# Altium schematic symbol library Pi.SchLib: 64 symbols
Pins are listed as number, name and electrical type; pins without a type are passive.

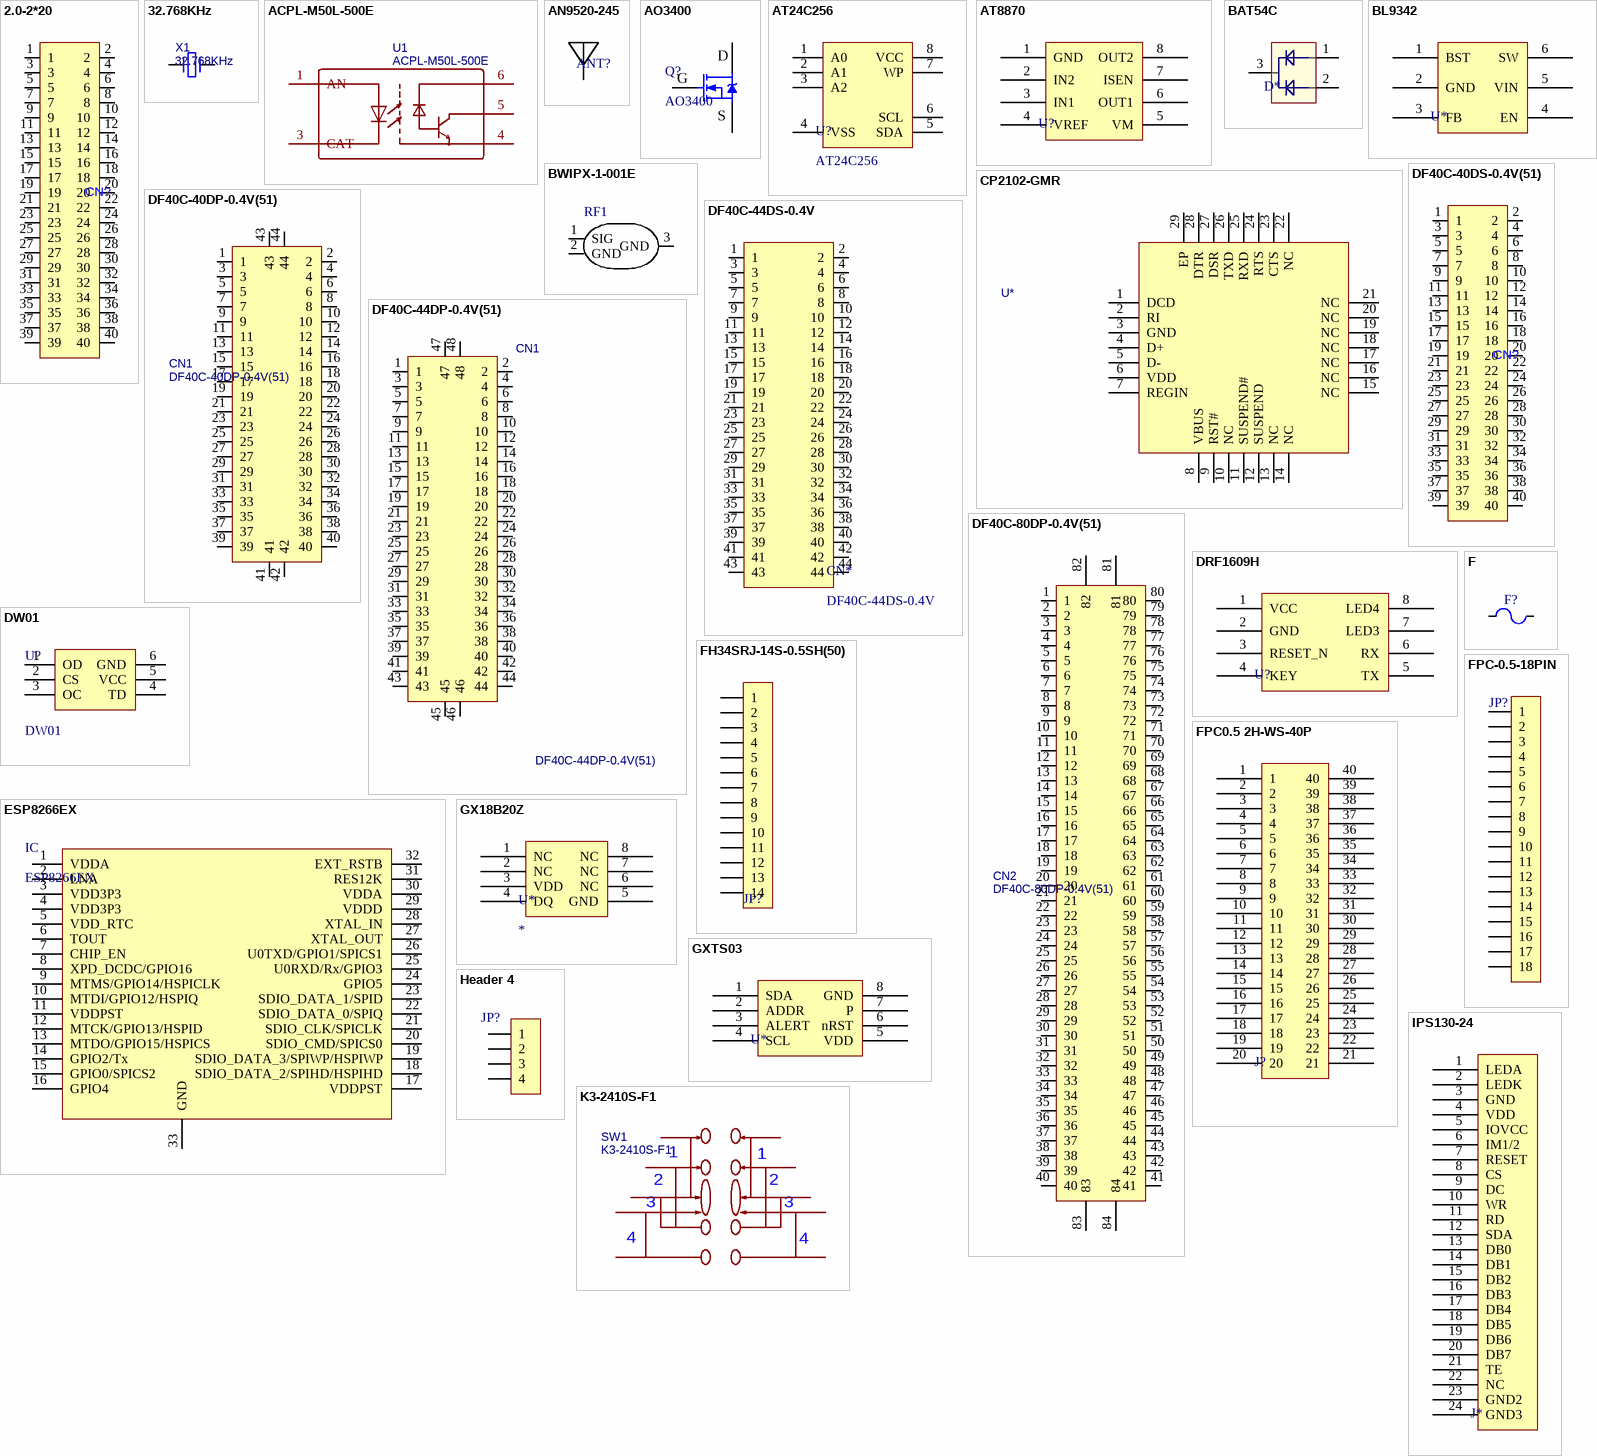
[diagram p0: symbols 2.0-2*20 to K3-2410S-F1]

## 2.0-2*20
designator CN?
footprint DF40C-40DS-0.4V
footprint 2.0-2*20
pins: 1, 2, 3, 4, 5, 6, 7, 8, 9, 10, 11, 12, 13, 14, 15, 16, 17, 18, 19, 20, 21, 22, 23, 24, 25, 26, 27, 28, 29, 30, 31, 32, 33, 34, 35, 36, 37, 38, 39, 40

## 32.768KHz
designator X1
立创商城:C48615; BOM_Manufacturer Part: Q13FC1350000200; BOM_Manufacturer: EPSON; nameAlias: Frequency; BOM_Supplier: LCSC; BOM_Supplier Part: C48615; BOM_JLCPCB Part Class: Extended Part; spicePre: X; spiceSymbolName: Q13FC1350000200
footprint SMD3215-2P
pins: 1, 2

## ACPL-M50L-500E
designator U1
BOM_Manufacturer: AVAGO; BOM_Supplier: LCSC; BOM_Manufacturer Part: ACPL-M50L-500E; BOM_Supplier Part: C54677; BOM_JLCPCB Part Class: Extended Part; spicePre: U; spiceSymbolName: ACPL-M50L-500E
footprint SO-5
pins: 1 AN, 3 CAT, 4 EM, 5 COL, 6 VCC

## AN9520-245
designator ANT?
陶瓷天线; BOM名称: PCB板载天线; 联系卖家，免费技术支持: 唯一出售店铺网址https://shop463601444.taobao.com
footprint AN9520-245
footprint 2.4GANTF1
footprint 2.4GANTF2
footprint 2.4GANTF3
footprint 2.4GANTF4
footprint 2.4GANTS0
footprint 2.4GANTS8
footprint 2.4GANTS9
footprint WIFI-ANT
pins: 1

## AO3400
designator Q?
N沟道 30V/4.2A; BOM名称: 场效应管; 封装库来自淘宝卖家 ID：黄晶宝石: 其他店铺购入均为盗版，不享受售后技术支持服务，请立即申请退款; 联系卖家，免费查找封装: 唯一出售店铺网址https://shop463601444.taobao.com; 参数: N沟道 30V/4.2A
footprint SOT23-3L
footprint SOT23-3L (3x1.3x1mm(长宽高))
footprint SOT23-3M (3x1.3x1mm(长宽高))
pins: 1 G, 2 S, 3 D

## AT24C256
designator U?
EEROM存储器; 联系卖家，免费查找封装: 唯一出售店铺网址https://shop463601444.taobao.com
footprint SOIC-8
pins: 1 A0, 2 A1, 3 A2, 4 VSS, 5 SDA, 6 SCL, 7 WP, 8 VCC

## AT8870
designator U?
footprint ESOP8_L (5*6*1.8mm（长宽高）)
pins: 1 GND, 2 IN2, 3 IN1, 4 VREF, 5 VM, 6 OUT1, 7 ISEN, 8 OUT2

## BAT54C
designator D*  (value not drawn)
两路肖特基二极管
footprint SOT23-3L
pins: 1, 2, 3

## BL9342
designator U*  (value not drawn)
footprint SOT23-6L
pins: 1 BST, 2 GND, 3 FB, 4 EN, 5 VIN, 6 SW

## BWIPX-1-001E
designator RF1
Manufacturer: BAT WIRELESS(蝙蝠无线); Symbol: BWIPX-1-001E; Add into BOM: yes; Device: BWIPX-1-001E; LCSC Part Name: RF天线座; Supplier Part: C496552; Manufacturer Part: BWIPX-1-001E; Supplier Footprint: -; JLCPCB Part Class: Extended Part; Datasheet: https://atta.szlcsc.com/upload/public/pdf/source/20201223/C496552_05E5A9956EAE1A8819C5051D085B1DED.pdf; Supplier: LCSC; Convert to PCB: yes
footprint IPEX-SMD_BWIPX-1-001E
3D model IPEX-SMD_BWIPX-1-001E
pins: 1 SIG, 2 GND, 3 GND

## CP2102-GMR
designator U*  (value not drawn)
BOM_Manufacturer: SILICON LABS; BOM_Supplier: LCSC; BOM_Manufacturer Part: CP2102-GMR; BOM_Supplier Part: C6568; BOM_JLCPCB Part Class: Basic Part; spicePre: U; spiceSymbolName: CP2102-GMR
footprint QFN28 5x5
pins: 1 DCD, 2 RI, 3 GND, 4 D+, 5 D-, 6 VDD, 7 REGIN, 8 VBUS, 9 RST#, 10 NC, 11 SUSPEND#, 12 SUSPEND, 13 NC, 14 NC, 15 NC, 16 NC, 17 NC, 18 NC, 19 NC, 20 NC, 21 NC, 22 NC, 23 CTS, 24 RTS, 25 RXD, 26 TXD, 27 DSR, 28 DTR, 29 EP

## DF40C-40DP-0.4V(51)
designator CN1
公座 / C424643; BOM_Manufacturer: HRS(广濑); Contributor: LCSC; BOM_Supplier: LCSC; BOM_Supplier Part: C424643; BOM_Manufacturer Part: DF40C-40DP-0.4V(51); BOM_JLCPCB Part Class: Extended Part; spicePre: C; spiceSymbolName: DF40C-40DP-0.4V(51)
footprint DF40C-40DP-0.4V
pins: 1, 2, 3, 4, 5, 6, 7, 8, 9, 10, 11, 12, 13, 14, 15, 16, 17, 18, 19, 20, 21, 22, 23, 24, 25, 26, 27, 28, 29, 30, 31, 32, 33, 34, 35, 36, 37, 38, 39, 40, 41, 42, 43, 44

## DF40C-40DS-0.4V(51)
designator CN?
BTB 母座 / C424644
footprint DF40C-40DS-0.4V
pins: 1, 2, 3, 4, 5, 6, 7, 8, 9, 10, 11, 12, 13, 14, 15, 16, 17, 18, 19, 20, 21, 22, 23, 24, 25, 26, 27, 28, 29, 30, 31, 32, 33, 34, 35, 36, 37, 38, 39, 40

## DF40C-44DP-0.4V(51)
designator CN1
公座 /; BOM_Manufacturer: HRS(广濑); BOM_Manufacturer Part: DF40C-40DP-0.4V(51); Contributor: LCSC; BOM_Supplier: LCSC; BOM_Supplier Part: C424643; BOM_JLCPCB Part Class: Extended Part; spicePre: C; spiceSymbolName: DF40C-40DP-0.4V(51)
footprint DF40C-44DP-0.4V
pins: 1, 2, 3, 4, 5, 6, 7, 8, 9, 10, 11, 12, 13, 14, 15, 16, 17, 18, 19, 20, 21, 22, 23, 24, 25, 26, 27, 28, 29, 30, 31, 32, 33, 34, 35, 36, 37, 38, 39, 40, 41, 42, 43, 44, 45, 46, 47, 48

## DF40C-44DS-0.4V
designator CN*
母座
footprint DF40C-44DS-0.4V
pins: 1, 2, 3, 4, 5, 6, 7, 8, 9, 10, 11, 12, 13, 14, 15, 16, 17, 18, 19, 20, 21, 22, 23, 24, 25, 26, 27, 28, 29, 30, 31, 32, 33, 34, 35, 36, 37, 38, 39, 40, 41, 42, 43, 44

## DF40C-80DP-0.4V(51)
designator CN2
BOM_Manufacturer: HRS(Hirose); Contributor: LCSC; BOM_Supplier: LCSC; BOM_Supplier Part: C294544; BOM_Manufacturer Part: DF40C-80DP-0.4V(51); BOM_JLCPCB Part Class: Extended Part; spicePre: C; spiceSymbolName: DF40C-80DP-0.4V(51)
footprint DF40C-80DP-0.4V
pins: 1, 2, 3, 4, 5, 6, 7, 8, 9, 10, 11, 12, 13, 14, 15, 16, 17, 18, 19, 20, 21, 22, 23, 24, 25, 26, 27, 28, 29, 30, 31, 32, 33, 34, 35, 36, 37, 38, 39, 40, 41, 42, 43, 44, 45, 46, 47, 48, 49, 50, 51, 52, 53, 54, 55, 56, 57, 58, 59, 60, 61, 62, 63, 64, 65, 66, 67, 68, 69, 70, 71, 72, 73, 74, 75, 76, 77, 78, 79, 80, 81, 82, 83, 84

## DRF1609H
designator U?
Zigbee模块
footprint DRF1609H-SMT
pins: 1 VCC, 2 GND, 3 RESET_N, 4 KEY, 5 TX, 6 RX, 7 LED3, 8 LED4

## DW01
designator U?
锂电池过流保护IC; BOM名称: 过流保护IC; 封装库来自淘宝卖家 ID：黄晶宝石: 其他店铺购入均为盗版，请立即申请退款，本店现金奖励5~20元; 联系卖家 免费查找封装: 唯一出售店铺网址https://shop463601444.taobao.com
footprint SOT23-6L
pins: 1 OD, 2 CS, 3 OC, 4 TD, 5 VCC, 6 GND

## ESP8266EX
designator IC
WIFI-芯片 / C77967
footprint QFN32 5x5_L
pins: 1 VDDA, 2 LNA, 3 VDD3P3, 4 VDD3P3, 5 VDD_RTC, 6 TOUT, 7 CHIP_EN, 8 XPD_DCDC/GPIO16, 9 MTMS/GPIO14/HSPICLK, 10 MTDI/GPIO12/HSPIQ, 11 VDDPST, 12 MTCK/GPIO13/HSPID, 13 MTDO/GPIO15/HSPICS, 14 GPIO2/Tx, 15 GPIO0/SPICS2, 16 GPIO4, 17 VDDPST, 18 SDIO_DATA_2/SPIHD/HSPIHD, 19 SDIO_DATA_3/SPIWP/HSPIWP, 20 SDIO_CMD/SPICS0, 21 SDIO_CLK/SPICLK, 22 SDIO_DATA_0/SPIQ, 23 SDIO_DATA_1/SPID, 24 GPIO5, 25 U0RXD/Rx/GPIO3, 26 U0TXD/GPIO1/SPICS1, 27 XTAL_OUT, 28 XTAL_IN, 29 VDDD, 30 VDDA, 31 RES12K, 32 EXT_RSTB, 33 GND

## F
designator F?
保险丝
footprint R1206 (1/4W贴片电阻)
footprint R0603 (贴片电阻)
pins: 1, 2

## FH34SRJ-14S-0.5SH(50)
designator JP?
C324724
footprint FH34SRJ-14S-0.5SH(50)
pins: 1, 2, 3, 4, 5, 6, 7, 8, 9, 10, 11, 12, 13, 14

## FPC0.5 2H-WS-40P
designator J?
FPC0.5 2H-WS-40P
footprint FPC0.5 2H-WS-40P
pins: 1, 2, 3, 4, 5, 6, 7, 8, 9, 10, 11, 12, 13, 14, 15, 16, 17, 18, 19, 20, 21, 22, 23, 24, 25, 26, 27, 28, 29, 30, 31, 32, 33, 34, 35, 36, 37, 38, 39, 40

## FPC-0.5-18PIN
designator JP?, comment HDR-1X18  (value not drawn)
FPC-0.5-18PIN
footprint FPC0.5 2H-WS-18P
pins: 1, 2, 3, 4, 5, 6, 7, 8, 9, 10, 11, 12, 13, 14, 15, 16, 17, 18

## GX18B20Z
designator U*
footprint SOP-8
pins: 1 NC, 2 NC, 3 VDD, 4 DQ, 5 GND, 6 NC, 7 NC, 8 NC

## GXTS03
designator U*
温度传感器 / C571219
footprint DFN-8
pins: 1 SDA, 2 ADDR, 3 ALERT, 4 SCL, 5 VDD, 6 nRST, 7 P, 8 GND

## Header 4
designator JP?, comment HDR-1X4  (value not drawn)
4P接插件
footprint HDR2.54
pins: 1, 2, 3, 4

## IPS130-24
designator J*
footprint FPC0.5 2H-WS-24P
pins: 1 LEDA, 2 LEDK, 3 GND, 4 VDD, 5 IOVCC, 6 IM1/2, 7 RESET, 8 CS, 9 DC, 10 WR, 11 RD, 12 SDA, 13 DB0, 14 DB1, 15 DB2, 16 DB3, 17 DB4, 18 DB5, 19 DB6, 20 DB7, 21 TE, 22 NC, 23 GND2, 24 GND3

## K3-2410S-F1
designator SW1
10脚四档滑动开关; BOM_Manufacturer: 韩国韩荣; Contributor: LCSC; BOM_Supplier: LCSC; BOM_Supplier Part: C502354; BOM_Manufacturer Part: K3-2410S-F1; BOM_JLCPCB Part Class: Extended Part; spicePre: S; spiceSymbolName: K3-2410S-F1
footprint SW-SMD_K3-2410S-F1
pins: 1, 2, 3, 4, 5, 6, 7, 8, 9, 10

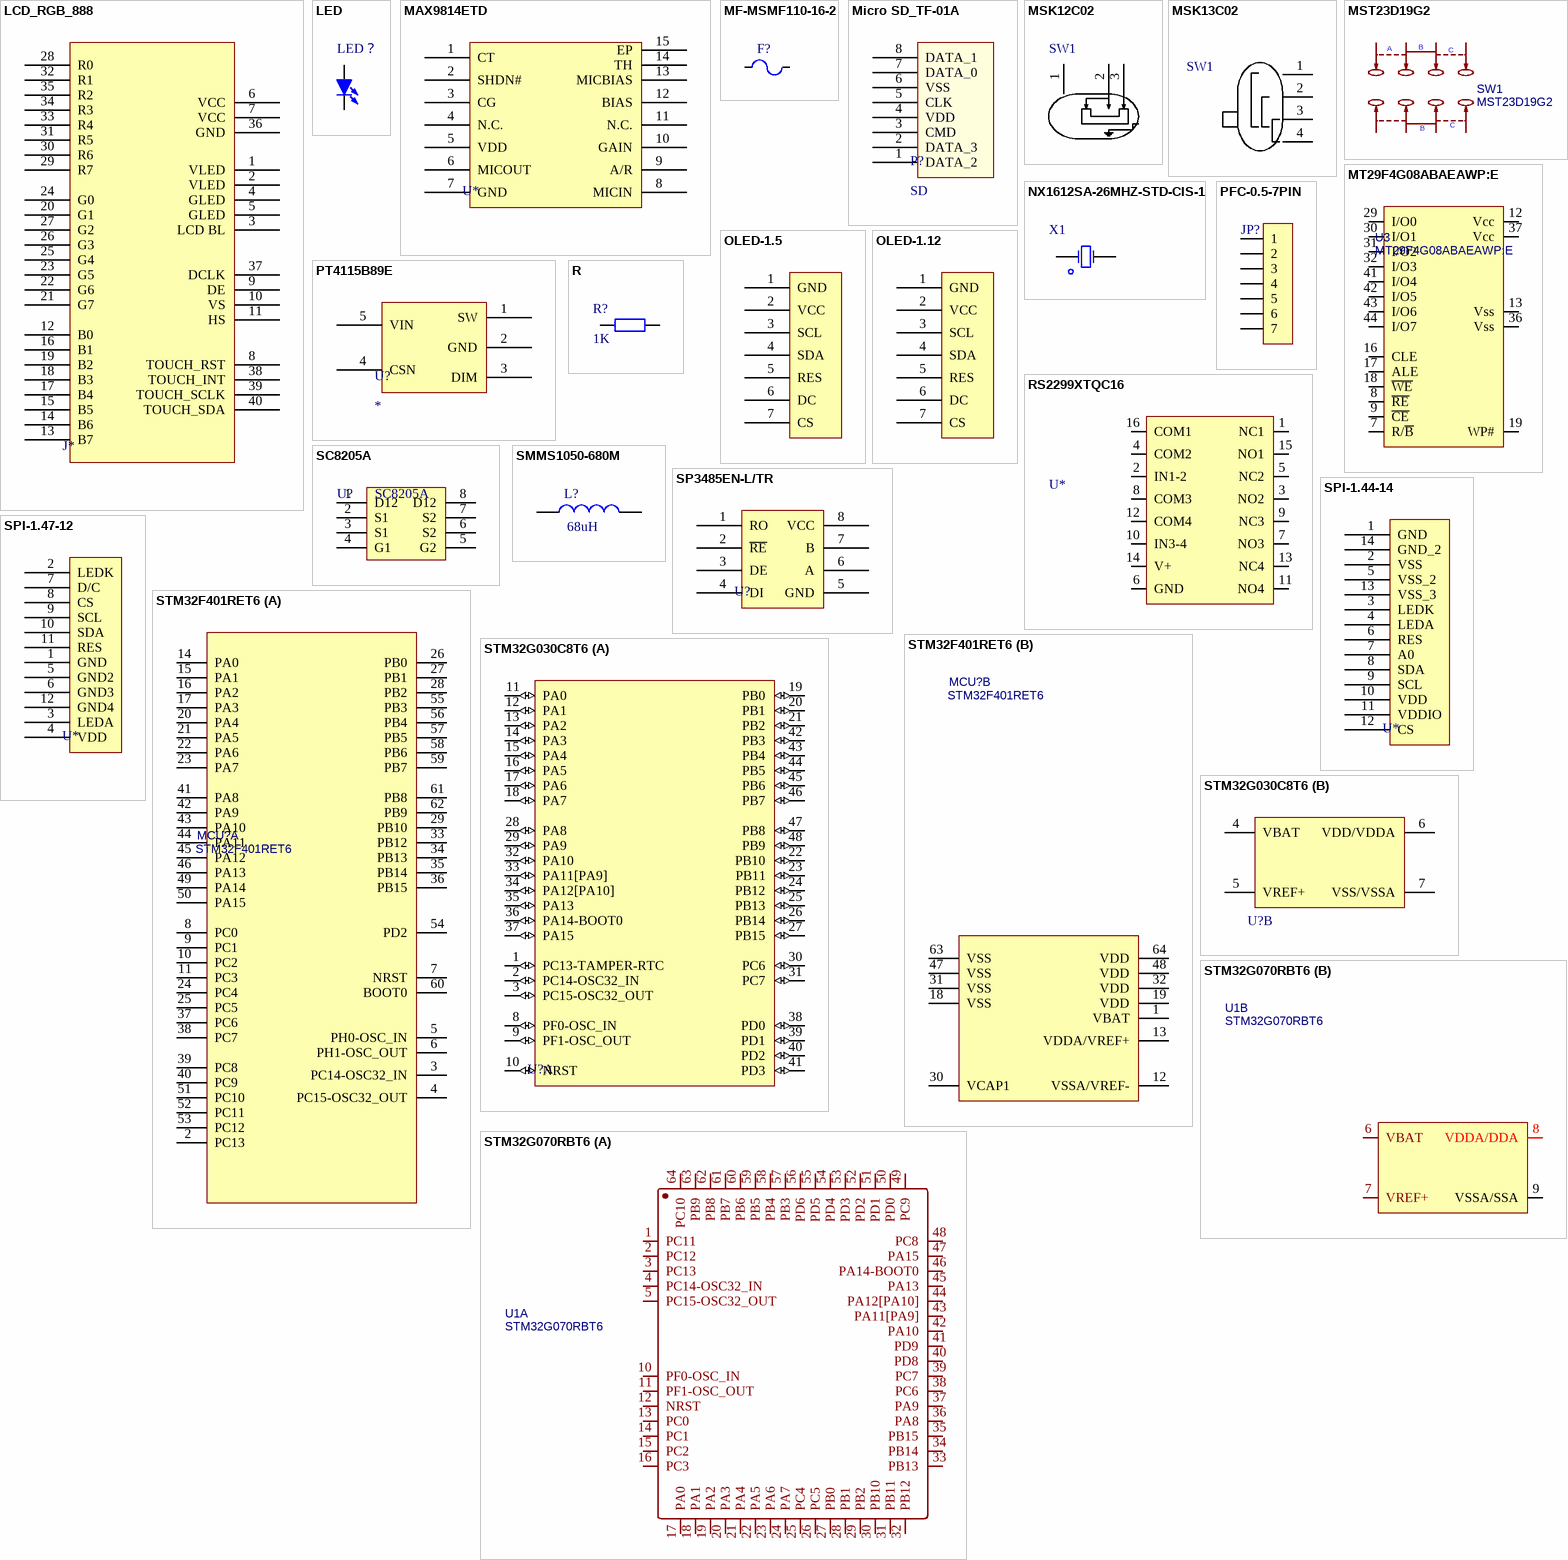
[diagram p1: symbols LCD_RGB_888 to STM32G070RBT6]

## LCD_RGB_888
designator J*
AT070TN83 或者反客
footprint FPC0.5 2H-WS-40P
pins: 1 VLED, 2 VLED, 3 LCD BL, 4 GLED, 5 GLED, 6 VCC, 7 VCC, 8 TOUCH_RST, 9 DE, 10 VS, 11 HS, 12 B0, 13 B7, 14 B6, 15 B5, 16 B1, 17 B4, 18 B3, 19 B2, 20 G1, 21 G7, 22 G6, 23 G5, 24 G0, 25 G4, 26 G3, 27 G2, 28 R0, 29 R7, 30 R6, 31 R5, 32 R1, 33 R4, 34 R3, 35 R2, 36 GND, 37 DCLK, 38 TOUCH_INT, 39 TOUCH_SCLK, 40 TOUCH_SDA

## LED
designator LED？
贴片LED; BOM名称: 贴片LED
footprint LED0603 (0603LED)
pins: 1 A, 2 K

## MAX9814ETD
designator U*
footprint TDFN-14
pins: 1 CT, 2 SHDN#, 3 CG, 4 N.C., 5 VDD, 6 MICOUT, 7 GND, 8 MICIN, 9 A/R, 10 GAIN, 11 N.C., 12 BIAS, 13 MICBIAS, 14 TH, 15 EP

## MF-MSMF110-16-2
designator F?
保险; Manufacturer: SXN(顺翔诺); Symbol: SMMS1050-680M; Add into BOM: yes; Value: 68uH; Tolerance: ±20%; Rated Current: 2A; DC Resistance (DCR): 210mΩ; Device: SMMS1050-680M; LCSC Part Name: 68uH ±20% 2A 210mΩ; Supplier Part: C149549; Manufacturer Part: SMMS1050-680M; Supplier Footprint: SMD; JLCPCB Part Class: 扩展库; Datasheet: https://atta.szlcsc.com/upload/public/pdf/source/20210810/BBF24330FB2F5029F637830BA9C42C0D.pdf; Supplier: LCSC; Convert to PCB: yes
3D model IND-SMD_L11.5-W10.0-H4.0
footprint Model Name (Footprint not found)
footprint F1812
pins: 1, 2

## Micro SD_TF-01A
designator P?, comment SD
TF-01A / C91145; 联系卖家，免费查找封装: 唯一出售店铺网址https://shop463601444.taobao.com
footprint MICRO SD
footprint TF-01A
pins: 1 DATA_2, 2 DATA_3, 3 CMD, 4 VDD, 5 CLK, 6 VSS, 7 DATA_0, 8 DATA_1

## MSK12C02
designator SW1
Manufacturer: SHOU HAN(首韩); Symbol: MSK12C02; Add into BOM: yes; Device: MSK12C02; LCSC Part Name: 两档侧拨贴片 7脚 拨动 白柄 柄长1.5mm,带定位柱; Supplier Part: C431540; Manufacturer Part: MSK12C02; Supplier Footprint: SMD; Datasheet: https://atta.szlcsc.com/upload/public/pdf/source/20190925/C431540_89155AEF0758B9AD1B2D805F83FB12E3.pdf; Supplier: LCSC; Convert to PCB: yes; JLCPCB Part Class: Extended Part
footprint SW-TH_MSK12C02
3D model SW-SMD_3P-L6.6-W2.7-LS7.8-P1.50
pins: 1, 2, 3

## MSK13C02
designator SW1
Manufacturer: SHOU HAN(首韩); Symbol: MSK13C02; Add into BOM: yes; Current Rating (AC): 300mA; Voltage Rating (AC): 4V; Circuit: 单刀双掷; Mechanical Life: 10000; Actuator Color: 黑色; Actuator Style: 矩形柱状; Pin Style: PC引脚; Device: MSK13C02; LCSC Part Name: 三档侧拨贴片 8脚拨动 黑柄,柄长1.5mm,耐温,高品质; Supplier Part: C2681567; Manufacturer Part: MSK13C02; Supplier Footprint: SMD; JLCPCB Part Class: Extended Part; Datasheet: https://atta.szlcsc.com/upload/public/pdf/source/20210224/C2681569_FC58956A868B5CB7B9861AAED20A2183.pdf; Supplier: LCSC; Convert to PCB: yes; Current Rating (DC): -; Voltage Rating (DC): -; Mounting Style: -; Operating Temperature: -10~+50
footprint SW-SMD_MSK13C02-SZ
3D model SW-SMD_MSK13C02-SZ
pins: 1, 2, 3, 4

## MST23D19G2
designator SW1
C431545; BOM_Manufacturer: SHOU HAN; Contributor: LCSC; BOM_Supplier: LCSC; BOM_Supplier Part: C431545; BOM_Manufacturer Part: MST23D19G2; BOM_JLCPCB Part Class: Extended Part; spicePre: S; spiceSymbolName: MST23D19G2
footprint SW-SMD_MST23D19G2
pins: 1, 2, 3, 4, 5, 6, 7, 8
text: B; A; C

## MT29F4G08ABAEAWP:E
designator U3
C496612; BOM_Manufacturer: micron(镁光); Contributor: LCSC; BOM_Supplier: LCSC; BOM_Supplier Part: C496612; BOM_Manufacturer Part: MT29F4G08ABAEAWP:E; BOM_JLCPCB Part Class: Extended Part; spicePre: U; spiceSymbolName: MT29F4G08ABAEAWP:E
footprint TSOP-48
pins: 1 NC hidden, 2 NC hidden, 3 NC hidden, 4 NC hidden, 5 NC hidden, 6 NC hidden, 7 R/~{B}, 8 ~{RE}, 9 ~{CE}, 10 NC hidden, 11 NC hidden, 12 Vcc, 13 Vss, 14 NC hidden, 15 NC hidden, 16 CLE, 17 ALE, 18 ~{WE}, 19 WP#, 20 DNU hidden, 21 DNU hidden, 22 DNU hidden, 23 NC hidden, 24 NC hidden, 25 NC hidden, 26 NC hidden, 27 NC hidden, 28 NC hidden, 29 I/O0, 30 I/O1, 31 I/O2, 32 I/O3, 33 NC hidden, 34 NC hidden, 35 NC hidden, 36 Vss, 37 Vcc, 38 PRE/VSS hidden, 39 NC hidden, 40 NC hidden, 41 I/O4, 42 I/O5, 43 I/O6, 44 I/O7, 45 NC hidden, 46 NC hidden, 47 NC hidden, 48 NC hidden

## NX1612SA-26MHZ-STD-CIS-1
designator X1
Manufacturer: NDK; Symbol: NX1612SA-26MHZ-STD-CIS-1; Add into BOM: yes; Device: NX1612SA-26MHZ-STD-CIS-1; LCSC Part Name: 26MHz 8pF ±10ppm; Supplier Part: C280835; Manufacturer Part: NX1612SA-26MHZ-STD-CIS-1; Supplier Footprint: SMD1612-4P; JLCPCB Part Class: Extended Part; Datasheet: https://atta.szlcsc.com/upload/public/pdf/source/20190115/C280835_09B940BBA18D5775216C5CCB22C59785.pdf; Supplier: LCSC; Convert to PCB: yes; Crystal Type: -; Frequency Tolerance: -; Frequency Stability: -; Load Capacitance: -; Operating Temperature: -
footprint OSC-SMD_4P-L1.6-W1.2-BL
3D model OSC-SMD_4P-L1.6-W1.2-H0.4-BL
pins: 1 IN, 2 GND hidden, 3 OUT, 4 GND hidden

## OLED-1.5
designator OLED?
中景园 1.5寸OLED ssd1327
footprint OLED-1.5
pins: 1 GND, 2 VCC, 3 SCL, 4 SDA, 5 RES, 6 DC, 7 CS

## OLED-1.12
designator OLED?
中景园 1.12寸OLED SH1107
footprint OLED-1.12
pins: 1 GND, 2 VCC, 3 SCL, 4 SDA, 5 RES, 6 DC, 7 CS

## PFC-0.5-7PIN
designator JP?, comment HDR-1X7  (value not drawn)
FPC 0.5
footprint FPC0.5 2H-WS-7P (����7.7mm�����5.2mm���ߣ�2mm)
pins: 1, 2, 3, 4, 5, 6, 7

## PT4115B89E
designator U?
footprint SOT89-5
pins: 1 SW, 2 GND, 3 DIM, 4 CSN, 5 VIN

## R
designator R?, comment 1K
贴片电阻
footprint R0603 (贴片电阻)
footprint R1206 (1/4W贴片电阻)
pins: 1, 2

## RS2299XTQC16
designator U*
300MHz,4.5欧姆,4通道2选1复用器; Manufacturer: RUNIC(润石); Symbol: RS2299XTQC16; Add into BOM: yes; Device: RS2299XTQC16; LCSC Part Name: 模拟开关RS2299XTQC16; Supplier Part: C255484; Manufacturer Part: RS2299XTQC16; LCSC On Sale: 1; Supplier Footprint: QFN-16L; JLCPCB On Sale: 1; Datasheet: https://atta.szlcsc.com/upload/public/pdf/watermark/20190926/C255484_4C013E9A810B0A2AFDD36AE75CDB7C7A.pdf; Supplier: LCSC; Convert to PCB: yes; Switch Circuit: -; Multiplexer/Demultiplexer Circuit: -; Number of Circuits: -; On Resistance (Max): -; Switch Voltage (Max): -; On Time (Max): -; Off Time (Max): -; Supply Voltage: -; Operating Temperature: -; JLCPCB Part Class: Extended Part
3D model QFN-16_L3.0-W3.0-H0.9-P0.50
footprint QFN16 3x3_L (16脚)
pins: 1 NC1, 2 IN1-2, 3 NO2, 4 COM2, 5 NC2, 6 GND, 7 NO3, 8 COM3, 9 NC3, 10 IN3-4, 11 NO4, 12 COM4, 13 NC4, 14 V+, 15 NO1, 16 COM1

## SC8205A
designator U?
N沟道 6A/20V锂电池保护板用的MOS管; BOM名称: 场效应管; 联系卖家，免费查找封装: 唯一出售店铺网址https://shop463601444.taobao.com; 封装库来自淘宝卖家 ID：黄晶宝石: 其他店铺购入均为盗版，不享受售后技术支持服务，请立即申请退款
footprint TSSOP8_L (TSSOP-8_L3.0-W4.4-H1.0-LS6.4-P0.65)
pins: 1 D12, 2 S1, 3 S1, 4 G1, 5 G2, 6 S2, 7 S2, 8 D12

## SMMS1050-680M
designator L?, comment 68uH
电感值:68uH;精度:±20%;额定电流:2A;直流电阻(DCR):210mΩ;; Manufacturer: SXN(顺翔诺); Symbol: SMMS1050-680M; Add into BOM: yes; Tolerance: ±20%; Rated Current: 2A; DC Resistance (DCR): 210mΩ; Device: SMMS1050-680M; LCSC Part Name: 68uH ±20% 2A 210mΩ; Supplier Part: C149549; Manufacturer Part: SMMS1050-680M; Supplier Footprint: SMD; JLCPCB Part Class: 扩展库; Datasheet: https://atta.szlcsc.com/upload/public/pdf/source/20210810/BBF24330FB2F5029F637830BA9C42C0D.pdf; Supplier: LCSC; Convert to PCB: yes; Value: 68uH
footprint IND-SMD_L11.5-W10.0
3D model IND-SMD_L11.5-W10.0-H4.0
pins: 1, 2

## SP3485EN-L/TR
designator U?
C8963
footprint SOIC-8
pins: 1 RO, 2 ~{RE}, 3 DE, 4 DI, 5 GND, 6 A, 7 B, 8 VCC

## SPI-1.44-14
designator U*
footprint FPC-0.8-14P
pins: 1 GND, 2 VSS, 3 LEDK, 4 LEDA, 5 VSS_2, 6 RES, 7 A0, 8 SDA, 9 SCL, 10 VDD, 11 VDDIO, 12 CS, 13 VSS_3, 14 GND_2

## SPI-1.47-12
designator U*
LCD 1.47寸屏幕 / ST7789驱动
footprint FPC-0.7-12P
pins: 1 GND, 2 LEDK, 3 LEDA, 4 VDD, 5 GND2, 6 GND3, 7 D/C, 8 CS, 9 SCL, 10 SDA, 11 RES, 12 GND4

## STM32F401RET6
designator MCU?
footprint LQFP64
part A pins: 2 PC13, 3 PC14-OSC32_IN, 4 PC15-OSC32_OUT, 5 PH0-OSC_IN, 6 PH1-OSC_OUT, 7 NRST, 8 PC0, 9 PC1, 10 PC2, 11 PC3, 14 PA0, 15 PA1, 16 PA2, 17 PA3, 20 PA4, 21 PA5, 22 PA6, 23 PA7, 24 PC4, 25 PC5, 26 PB0, 27 PB1, 28 PB2, 29 PB10, 33 PB12, 34 PB13, 35 PB14, 36 PB15, 37 PC6, 38 PC7, 39 PC8, 40 PC9, 41 PA8, 42 PA9, 43 PA10, 44 PA11, 45 PA12, 46 PA13, 49 PA14, 50 PA15, 51 PC10, 52 PC11, 53 PC12, 54 PD2, 55 PB3, 56 PB4, 57 PB5, 58 PB6, 59 PB7, 60 BOOT0, 61 PB8, 62 PB9
part B pins: 1 VBAT, 12 VSSA/VREF-, 13 VDDA/VREF+, 18 VSS, 19 VDD, 30 VCAP1, 31 VSS, 32 VDD, 47 VSS, 48 VDD, 63 VSS, 64 VDD

## STM32G030C8T6
designator U?
footprint LQFP48_L (Thin QFP, 48-Leads, Body 7x7mm, Pitch 0.5mm, IPC High Density)
part A pins: 1 PC13-TAMPER-RTC (io), 2 PC14-OSC32_IN (io), 3 PC15-OSC32_OUT (io), 8 PF0-OSC_IN (io), 9 PF1-OSC_OUT (io), 10 NRST (io), 11 PA0 (io), 12 PA1 (io), 13 PA2 (io), 14 PA3 (io), 15 PA4 (io), 16 PA5 (io), 17 PA6 (io), 18 PA7 (io), 19 PB0 (io), 20 PB1 (io), 21 PB2 (io), 22 PB10 (io), 23 PB11 (io), 24 PB12 (io), 25 PB13 (io), 26 PB14 (io), 27 PB15 (io), 28 PA8 (io), 29 PA9 (io), 30 PC6 (io), 31 PC7 (io), 32 PA10 (io), 33 PA11[PA9] (io), 34 PA12[PA10] (io), 35 PA13 (io), 36 PA14-BOOT0 (io), 37 PA15 (io), 38 PD0 (io), 39 PD1 (io), 40 PD2 (io), 41 PD3 (io), 42 PB3 (io), 43 PB4 (io), 44 PB5 (io), 45 PB6 (io), 46 PB7 (io), 47 PB8 (io), 48 PB9 (io)
part B pins: 4 VBAT (power), 5 VREF+ (power), 6 VDD/VDDA (power), 7 VSS/VSSA (power)

## STM32G070RBT6
designator U1
BOM_Manufacturer: STMicroelectronics; Contributor: LCSC; BOM_Supplier: LCSC; BOM_Supplier Part: C529340; BOM_Manufacturer Part: STM32G070RBT6; BOM_JLCPCB Part Class: Extended Part; spicePre: U; spiceSymbolName: STM32G070RBT6
footprint LQFP64
part A pins: 1 PC11, 2 PC12, 3 PC13, 4 PC14-OSC32_IN, 5 PC15-OSC32_OUT, 10 PF0-OSC_IN, 11 PF1-OSC_OUT, 12 NRST, 13 PC0, 14 PC1, 15 PC2, 16 PC3, 17 PA0, 18 PA1, 19 PA2, 20 PA3, 21 PA4, 22 PA5, 23 PA6, 24 PA7, 25 PC4, 26 PC5, 27 PB0, 28 PB1, 29 PB2, 30 PB10, 31 PB11, 32 PB12, 33 PB13, 34 PB14, 35 PB15, 36 PA8, 37 PA9, 38 PC6, 39 PC7, 40 PD8, 41 PD9, 42 PA10, 43 PA11[PA9], 44 PA12[PA10], 45 PA13, 46 PA14-BOOT0, 47 PA15, 48 PC8, 49 PC9, 50 PD0, 51 PD1, 52 PD2, 53 PD3, 54 PD4, 55 PD5, 56 PD6, 57 PB3, 58 PB4, 59 PB5, 60 PB6, 61 PB7, 62 PB8, 63 PB9, 64 PC10
part B pins: 6 VBAT, 7 VREF+, 8 VDDA/DDA, 9 VSSA/SSA

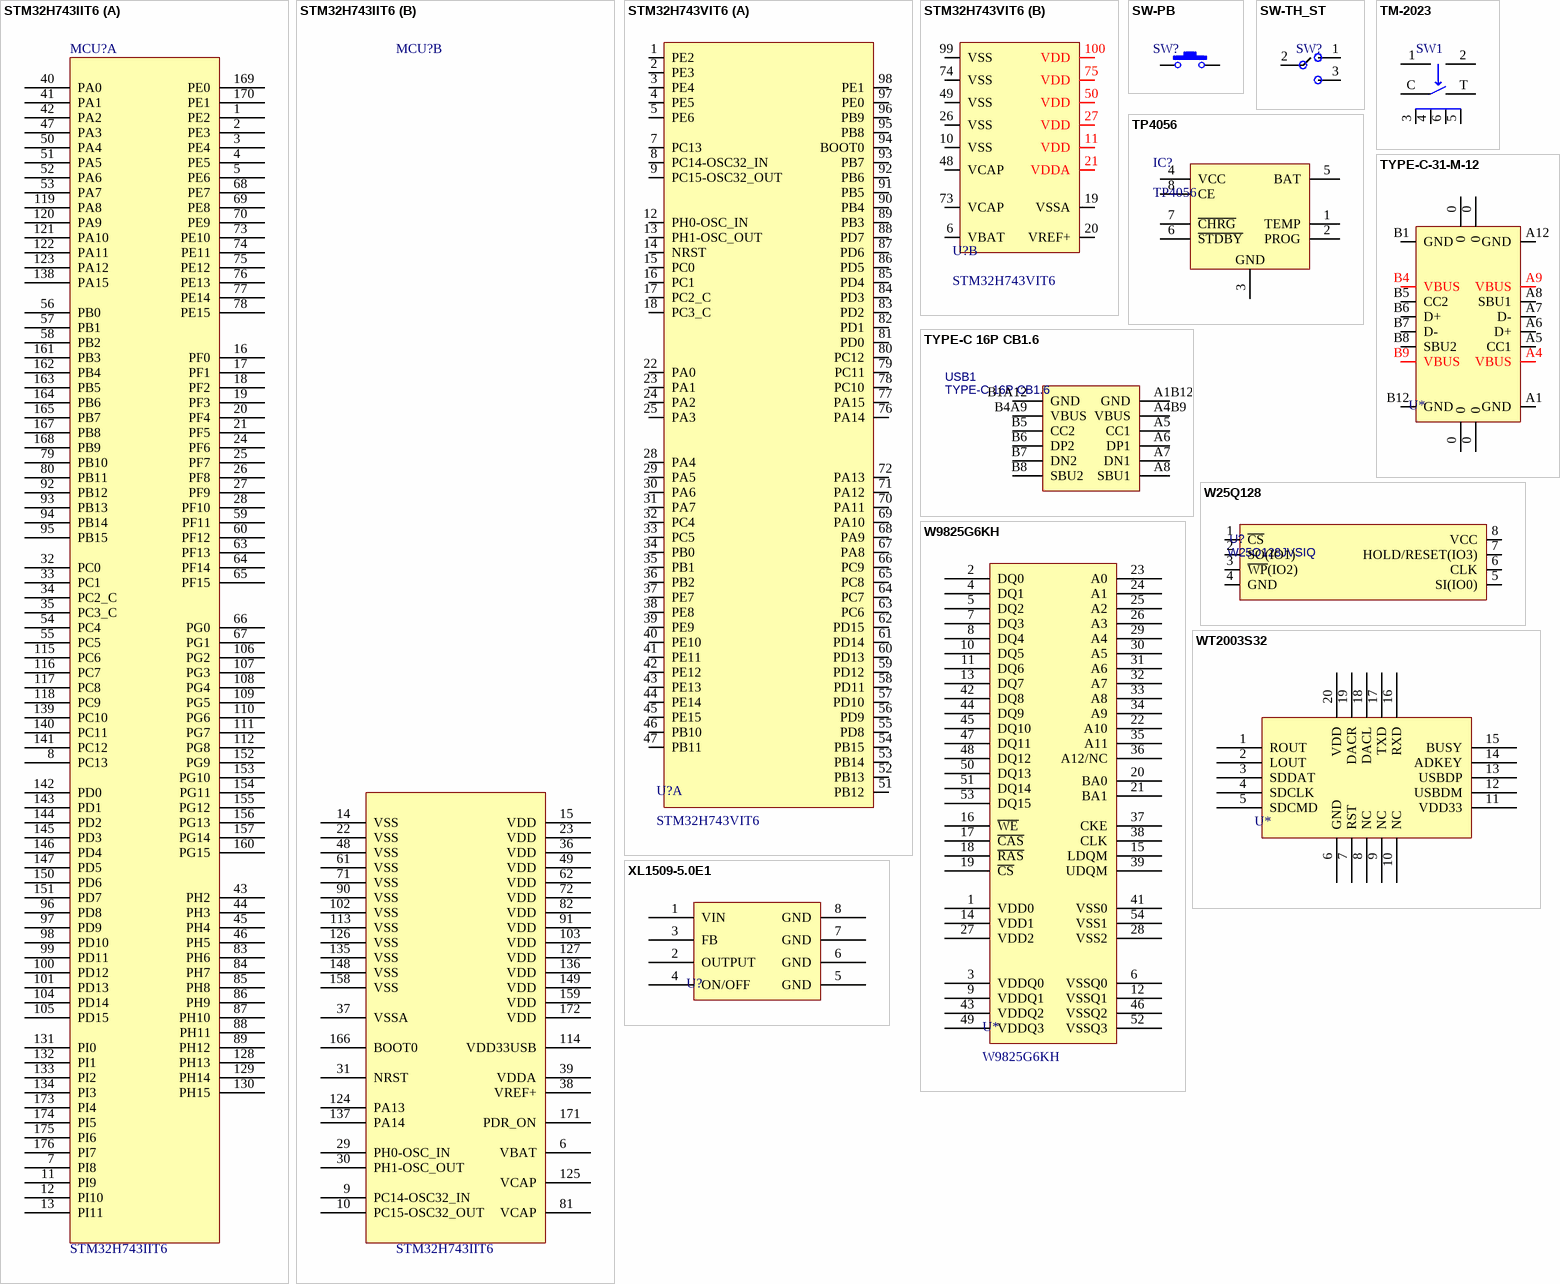
[diagram p2: symbols STM32H743IIT6 to XL1509-5.0E1]

## STM32H743IIT6
designator MCU?
footprint LQFT-176
part A pins: 1 PE2, 2 PE3, 3 PE4, 4 PE5, 5 PE6, 7 PI8, 8 PC13, 11 PI9, 12 PI10, 13 PI11, 16 PF0, 17 PF1, 18 PF2, 19 PF3, 20 PF4, 21 PF5, 24 PF6, 25 PF7, 26 PF8, 27 PF9, 28 PF10, 32 PC0, 33 PC1, 34 PC2_C, 35 PC3_C, 40 PA0, 41 PA1, 42 PA2, 43 PH2, 44 PH3, 45 PH4, 46 PH5, 47 PA3, 50 PA4, 51 PA5, 52 PA6, 53 PA7, 54 PC4, 55 PC5, 56 PB0, 57 PB1, 58 PB2, 59 PF11, 60 PF12, 63 PF13, 64 PF14, 65 PF15, 66 PG0, 67 PG1, 68 PE7, 69 PE8, 70 PE9, 73 PE10, 74 PE11, 75 PE12, 76 PE13, 77 PE14, 78 PE15, 79 PB10, 80 PB11, 83 PH6, 84 PH7, 85 PH8, 86 PH9, 87 PH10, 88 PH11, 89 PH12, 92 PB12, 93 PB13, 94 PB14, 95 PB15, 96 PD8, 97 PD9, 98 PD10, 99 PD11, 100 PD12, 101 PD13, 104 PD14, 105 PD15, 106 PG2, 107 PG3, 108 PG4, 109 PG5, 110 PG6, 111 PG7, 112 PG8, 115 PC6, 116 PC7, 117 PC8, 118 PC9, 119 PA8, 120 PA9, 121 PA10, 122 PA11, 123 PA12, 128 PH13, 129 PH14, 130 PH15, 131 PI0, 132 PI1, 133 PI2, 134 PI3, 138 PA15, 139 PC10, 140 PC11, 141 PC12, 142 PD0, 143 PD1, 144 PD2, 145 PD3, 146 PD4, 147 PD5, 150 PD6, 151 PD7, 152 PG9, 153 PG10, 154 PG11, 155 PG12, 156 PG13, 157 PG14, 160 PG15, 161 PB3, 162 PB4, 163 PB5, 164 PB6, 165 PB7, 167 PB8, 168 PB9, 169 PE0, 170 PE1, 173 PI4, 174 PI5, 175 PI6, 176 PI7
part B pins: 6 VBAT, 9 PC14-OSC32_IN, 10 PC15-OSC32_OUT, 14 VSS, 15 VDD, 22 VSS, 23 VDD, 29 PH0-OSC_IN, 30 PH1-OSC_OUT, 31 NRST, 36 VDD, 37 VSSA, 38 VREF+, 39 VDDA, 48 VSS, 49 VDD, 61 VSS, 62 VDD, 71 VSS, 72 VDD, 81 VCAP, 82 VDD, 90 VSS, 91 VDD, 102 VSS, 103 VDD, 113 VSS, 114 VDD33USB, 124 PA13, 125 VCAP, 126 VSS, 127 VDD, 135 VSS, 136 VDD, 137 PA14, 148 VSS, 149 VDD, 158 VSS, 159 VDD, 166 BOOT0, 171 PDR_ON, 172 VDD

## STM32H743VIT6
designator U?
footprint LQFP-100
part A pins: 1 PE2, 2 PE3, 3 PE4, 4 PE5, 5 PE6, 7 PC13, 8 PC14-OSC32_IN, 9 PC15-OSC32_OUT, 12 PH0-OSC_IN, 13 PH1-OSC_OUT, 14 NRST, 15 PC0, 16 PC1, 17 PC2_C, 18 PC3_C, 22 PA0, 23 PA1, 24 PA2, 25 PA3, 28 PA4, 29 PA5, 30 PA6, 31 PA7, 32 PC4, 33 PC5, 34 PB0, 35 PB1, 36 PB2, 37 PE7, 38 PE8, 39 PE9, 40 PE10, 41 PE11, 42 PE12, 43 PE13, 44 PE14, 45 PE15, 46 PB10, 47 PB11, 51 PB12, 52 PB13, 53 PB14, 54 PB15, 55 PD8, 56 PD9, 57 PD10, 58 PD11, 59 PD12, 60 PD13, 61 PD14, 62 PD15, 63 PC6, 64 PC7, 65 PC8, 66 PC9, 67 PA8, 68 PA9, 69 PA10, 70 PA11, 71 PA12, 72 PA13, 76 PA14, 77 PA15, 78 PC10, 79 PC11, 80 PC12, 81 PD0, 82 PD1, 83 PD2, 84 PD3, 85 PD4, 86 PD5, 87 PD6, 88 PD7, 89 PB3, 90 PB4, 91 PB5, 92 PB6, 93 PB7, 94 BOOT0, 95 PB8, 96 PB9, 97 PE0, 98 PE1
part B pins: 6 VBAT, 10 VSS, 11 VDD, 19 VSSA, 20 VREF+, 21 VDDA, 26 VSS, 27 VDD, 48 VCAP, 49 VSS, 50 VDD, 73 VCAP, 74 VSS, 75 VDD, 99 VSS, 100 VDD

## SW-PB
designator SW?, comment 3x6x5  (value not drawn)
C961745; BOM名称: 3x6轻触开关; 联系卖家，免费查找封装: 唯一出售店铺网址https://shop463601444.taobao.com
footprint SW 3*6*4.3-S-W (侧立贴片3*6*4.3)
pins: 1, 2

## SW-TH_ST
designator SW?
SW-TH_ST-0-102-C03-N003-RS / C1788489
footprint SW-TH_ST-0-102-C03-N003-RS
pins: 1, 2, 3

## TM-2023
designator SW1
Manufacturer: XKB Connectivity(中国星坤); Symbol: TM-2023; Add into BOM: yes; Device: TM-2023; LCSC Part Name: 3挡拨轮开关; Supplier Part: C318951; Manufacturer Part: TM-2023; Supplier Footprint: SMD; Datasheet: https://atta.szlcsc.com/upload/public/pdf/source/20211015/4E21B3A9DEF1E687333BA1DF36F89D09.pdf; Supplier: LCSC; Convert to PCB: yes; JLCPCB Part Class: Extended Part
footprint SW-SMD_TM-2023-1
3D model SW-SMD_TM-2023-1
pins: 1, 2, 3, 4, 5, 6, C, T

## TP4056
designator IC?
锂电池充电管理
footprint ESOP8_L (5*6*1.8mm（长宽高）)
pins: 1 TEMP, 2 PROG, 3 GND, 4 VCC, 5 BAT, 6 ~{STDBY}, 7 ~{CHRG}, 8 CE

## TYPE-C 16P CB1.6
designator USB1
沉板1.6; BOM_Manufacturer: SHOU HAN(首韩); Contributor: LCSC; BOM_Supplier: LCSC; BOM_Supplier Part: C2681554; BOM_Manufacturer Part: TYPE-C 16P CB1.6; BOM_JLCPCB Part Class: Extended Part; spicePre: U; spiceSymbolName: TYPE-C 16P CB1.6
footprint USB-C-SMD_TYPE-C-16P-CB1.6
footprint Type-C  16PIN
pins: A1B12 GND, A4B9 VBUS, A5 CC1, A6 DP1, A7 DN1, A8 SBU1, B1A12 GND, B4A9 VBUS, B5 CC2, B6 DP2, B7 DN2, B8 SBU2

## TYPE-C-31-M-12
designator U*
C165948
footprint TYPE-C-31-M-12
pins: 0, 0, 0, 0, A1 GND, A4 VBUS, A5 CC1, A6 D+, A7 D-, A8 SBU1, A9 VBUS, A12 GND, B1 GND, B4 VBUS, B5 CC2, B6 D+, B7 D-, B8 SBU2, B9 VBUS, B12 GND

## W25Q128
designator U?, comment W25Q128JVSIQ
SPI FLASH; 封装库来自 淘宝卖家 ID：黄晶宝石: 其他店铺购入均为盗版假冒封装库，请立即申请退款
footprint SOIC-8W
pins: 1 ~{CS}, 2 SO(IO1), 3 ~{WP}(IO2), 4 GND, 5 SI(IO0), 6 CLK, 7 HOLD/RESET(IO3), 8 VCC

## W9825G6KH
designator U*
C97572
footprint TSOP-54
pins: 1 VDD0, 2 DQ0, 3 VDDQ0, 4 DQ1, 5 DQ2, 6 VSSQ0, 7 DQ3, 8 DQ4, 9 VDDQ1, 10 DQ5, 11 DQ6, 12 VSSQ1, 13 DQ7, 14 VDD1, 15 LDQM, 16 ~{WE}, 17 ~{CAS}, 18 ~{RAS}, 19 ~{CS}, 20 BA0, 21 BA1, 22 A10, 23 A0, 24 A1, 25 A2, 26 A3, 27 VDD2, 28 VSS2, 29 A4, 30 A5, 31 A6, 32 A7, 33 A8, 34 A9, 35 A11, 36 A12/NC, 37 CKE, 38 CLK, 39 UDQM, 41 VSS0, 42 DQ8, 43 VDDQ2, 44 DQ9, 45 DQ10, 46 VSSQ2, 47 DQ11, 48 DQ12, 49 VDDQ3, 50 DQ13, 51 DQ14, 52 VSSQ3, 53 DQ15, 54 VSS1

## WT2003S32
designator U*  (value not drawn)
footprint QFN-20
pins: 1 ROUT, 2 LOUT, 3 SDDAT, 4 SDCLK, 5 SDCMD, 6 GND, 7 RST, 8 NC, 9 NC, 10 NC, 11 VDD33, 12 USBDM, 13 USBDP, 14 ADKEY, 15 BUSY, 16 RXD, 17 TXD, 18 DACL, 19 DACR, 20 VDD

## XL1509-5.0E1
designator U?
DC DC降压芯片
footprint SOP-8
pins: 1 VIN, 2 OUTPUT, 3 FB, 4 ON/OFF, 5 GND, 6 GND, 7 GND, 8 GND